# EAGLE library part DB25_5747846 (library headers)
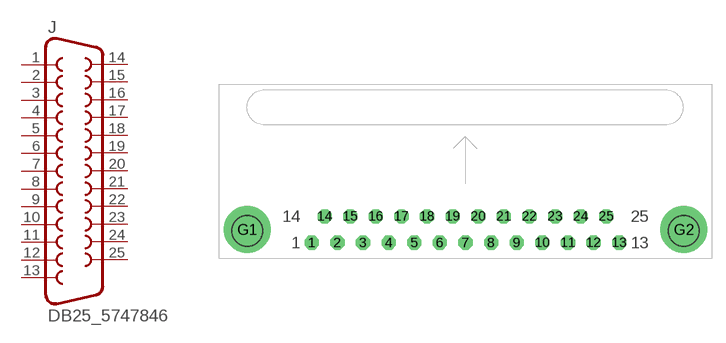
[diagram p20: symbol with the pads of DB25_5747846; footprint DB25_5747846]

Designator prefix J

## DB25_5747846 (DIGIKEY: A32126-ND)  [DB25_5747846]
1  1  pas
2  2  pas
3  3  pas
4  4  pas
5  5  pas
6  6  pas
7  7  pas
8  8  pas
9  9  pas
10  10  pas
11  11  pas
12  12  pas
13  13  pas
14  14  pas
15  15  pas
16  16  pas
17  17  pas
18  18  pas
19  19  pas
20  20  pas
21  21  pas
22  22  pas
23  23  pas
24  24  pas
25  25  pas

## Footprint DB25_5747846 (pad centres in mm)
SUB-D
drill 1.016 octagon: 1 0,0; 2 2.76,0; 3 5.52,0; 4 8.28,0; 5 11.041,0; 6 13.801,0; 7 16.561,0; 8 19.321,0; 9 22.081,0; 10 24.841,0; 11 27.601,0; 12 30.362,0; 13 33.122,0; 14 1.379,2.845; 15 4.139,2.845; 16 6.898,2.845; 17 9.657,2.845; 18 12.417,2.845; 19 15.176,2.845; 20 17.935,2.845; 21 20.695,2.845; 22 23.454,2.845; 23 26.213,2.845; 24 28.973,2.845; 25 31.732,2.845
drill 3.302 pad 5.08: G1 -6.96,1.422; G2 40.081,1.422